# Altium schematic symbol library STM_SCH_LIB.SchLib: 18 symbols
Pins are listed as number, name and electrical type; pins without a type are passive.

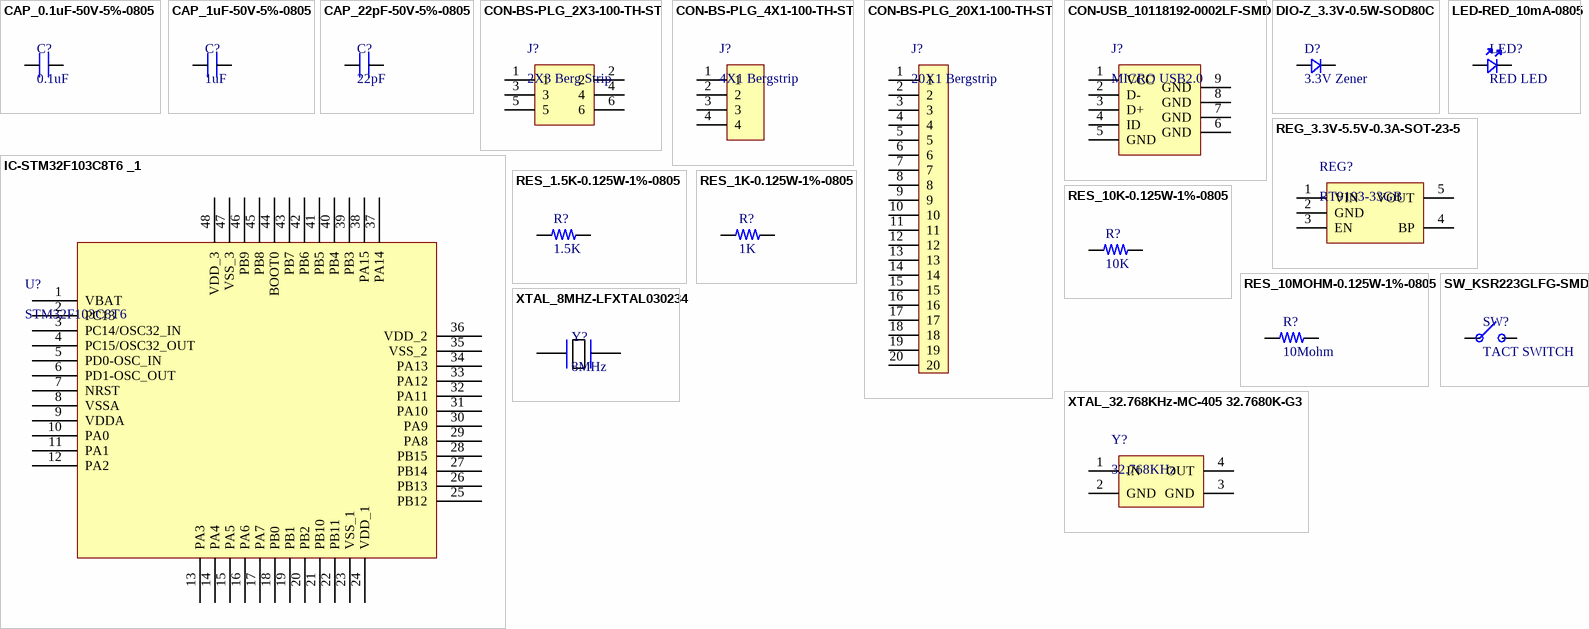
[diagram p0: symbols CAP_0.1uF-50V-5%-0805 to XTAL_32.768KHz-MC-405 32.7680K-G3]

## CAP_0.1uF-50V-5%-0805
designator C?, comment 0.1uF
0.1µF ±5% 50V Ceramic Capacitor X7R 0805 (2012 Metric); Manufacturer: KEMET; Manufacturing Part Number: C0805C104J5RACTU; Case/Package: 0805 (2012 Metric); Supplier-1: Digikey; Supplier Part Number-1: 399-1171-1-ND
footprint CAP_0805 (Ceramic Capacitor)
pins: 1, 2

## CAP_1uF-50V-5%-0805
designator C?, comment 1uF
1µF ±5% 50V Ceramic Capacitor X7R 0805 (2012 Metric); Manufacturer: Yageo; Manufacturing Part Number: CC0805JKX7R9BB105; Case/Package: 0805 (2012 Metric); Supplier-1: Digikey; Supplier Part Number-1: 311-3498-1-ND
footprint CAP_0805 (Ceramic Capacitor)
pins: 1, 2

## CAP_22pF-50V-5%-0805
designator C?, comment 22pF
22pF ±5% 50V Ceramic Capacitor C0G, NP0 0805 (2012 Metric); Manufacturer: KEMET; Manufacturer Part Number: C0805C220J5GACTU; Case/Package: 0805; Supplier-1: Digikey; Supplier Part Number-1: 399-1113-1-ND
footprint CAP_0805 (Ceramic Capacitor)
pins: 1, 2

## CON-BS-PLG_2X3-100-TH-ST
designator J?, comment 2X3 Berg Strip
6 pin, 2 row, 2.54mm pitch bergstrip; Manufacturer: NA; Manufacturer Part Number: NA; Case/Package: TH; Supplier-1: NA; Supplier Part Number-1: NA
footprint CON6_100_59D78_TH_ST_Duplicate (Berg strip)
pins: 1, 2, 3, 4, 5, 6

## CON-BS-PLG_4X1-100-TH-ST
designator J?, comment 4X1 Bergstrip
4 pin, 1 row, 2.54mm pitch bergstrip; Manufacturer: NA; Manufacturing Part Number: NA; Case/Package: TH; Supplier-1: NA; Supplier Part Number-1: NA
footprint CON4_100_40D72_TH_ST_MALE (Berg Strip)
pins: 1, 2, 3, 4

## CON-BS-PLG_20X1-100-TH-ST
designator J?, comment 20X1 Bergstrip
20 pin, 1 row, 2.54mm pitch bergstrip; Manufacturer: NA; Manufacturing Part Number: NA; Case/Package: TH; Supplier-1: NA; Supplier Part Number-1: NA
footprint CON20_100_40D72_TH_ST (Berg strip)
pins: 1, 2, 3, 4, 5, 6, 7, 8, 9, 10, 11, 12, 13, 14, 15, 16, 17, 18, 19, 20

## CON-USB_10118192-0002LF-SMD
designator J?, comment MICRO USB2.0
USB - micro B USB 2.0 Receptacle Connector 5 Position Surface Mount, Right Angle; Manufacturer: Amphenol ICC (FCI); Manufacturing Part Number: 10118192-0002LF; Case/Package: SMD; Supplier-1: Digikey; Supplier Part Number-1: 609-5379-1-ND
footprint CON_10118192-0001LF_SMD (USB2.0 MICRO)
pins: 1 VCC, 2 D-, 3 D+, 4 ID, 5 GND, 6 GND, 7 GND, 8 GND, 9 GND

## DIO-Z_3.3V-0.5W-SOD80C
designator D?, comment 3.3V Zener
Zener Diode 3.3V 500mW ±5% Surface Mount LLDS; MiniMelf; Manufacturer: Nexperia USA Inc.; Manufacturing Part Number: BZV55-C3V3,115; Case/Package: SOD80C; Supplier-1: Digikey; Supplier Part Number-1: 1727-4970-1-ND
footprint DIO_SOD80C (Voltage regulator diodes)
pins: A, K

## IC-STM32F103C8T6 _1
designator U?, comment STM32F103C8T6
ARM® Cortex®-M3 STM32F1 Microcontroller IC 32-Bit 72MHz 64KB (64K x 8) FLASH; Manufacturer: STMicroelectronics; Manufacturer Part Number: STM32F103C8T6; Case/Package: 48-LQFP; Supplier-1: Digikey; Supplier Part Number-1: 497-6063-ND
footprint LQFP-48_19.6_393_58X11_SMD (48LQFP)
pins: 1 VBAT, 2 PC13, 3 PC14/OSC32_IN, 4 PC15/OSC32_OUT, 5 PD0-OSC_IN, 6 PD1-OSC_OUT, 7 NRST, 8 VSSA, 9 VDDA, 10 PA0, 11 PA1, 12 PA2, 13 PA3, 14 PA4, 15 PA5, 16 PA6, 17 PA7, 18 PB0, 19 PB1, 20 PB2, 21 PB10, 22 PB11, 23 VSS_1, 24 VDD_1, 25 PB12, 26 PB13, 27 PB14, 28 PB15, 29 PA8, 30 PA9, 31 PA10, 32 PA11, 33 PA12, 34 PA13, 35 VSS_2, 36 VDD_2, 37 PA14, 38 PA15, 39 PB3, 40 PB4, 41 PB5, 42 PB6, 43 PB7, 44 BOOT0, 45 PB8, 46 PB9, 47 VSS_3, 48 VDD_3

## LED-RED_10mA-0805
designator LED?, comment RED LED
Red 621nm LED Indication - Discrete 2V 0805 (2012 Metric); Manufacturer: Lite-On Inc.; Manufacturer Part Number: LTST-C170EKT; Case/ Package: 0805; Supplier-1: Digikey; Supplier Part Number-1: 160-1178-1-ND
footprint LED_0805 (LED)
pins: A, K

## REG_3.3V-5.5V-0.3A-SOT-23-5
designator REG?, comment RT9193-33GB
Linear Voltage Regulator IC 1 Output 300mA SOT-23-5; Manufacturer: Richtek USA Inc.; Manufacturer Part Number: RT9193-33GB; Case/ Package: SOT-23-5; Supplier-1: Digikey; Supplier Part Number-1: 1028-1014-1-ND
footprint SOT23-5 (CASE: SOT)
pins: 1 VIN, 2 GND, 3 EN, 4 BP, 5 VOUT

## RES_1.5K-0.125W-1%-0805
designator R?, comment 1.5K
1.5 kOhms ±1% 0.125W, 1/8W Chip Resistor 0805 (2012 Metric) Thick Film; Manufacturer: TE Connectivity Passive Product; Manufacturing Part Number: CRG0805F1K5; Case/Package: 0805; Supplier-1: Digikey; Supplier Part Number-1: A106057CT-ND
footprint RES_0805 (Resister)
pins: 1, 2

## RES_1K-0.125W-1%-0805
designator R?, comment 1K
1 kOhms ±1% 0.125W, 1/8W Chip Resistor 0805 (2012 Metric) Moisture Resistant Thick Film; Manufacturer: 垈㎵á; Manufacturer Part Number: RC0805FR-071KL; Case/Package: 0805; Supplier-1: Digikey; Supplier Part Number-1: 311-1.00KCRCT-ND
footprint RES_0805 (Resister)
pins: 1, 2

## RES_10K-0.125W-1%-0805
designator R?, comment 10K
10 kOhms ±1% 0.125W, 1/8W Chip Resistor 0805 (2012 Metric) Moisture Resistant Thick Film; Manufacturer: Yageo; Manufacturing Part Number: RC0805FR-0710KL; Case/Package: 0805; Supplier-1: Digikey; Supplier Part Number-1: 311-10.0KCRCT-ND
footprint RES_0805 (Resister)
pins: 1, 2

## RES_10MOHM-0.125W-1%-0805
designator R?, comment 10Mohm
10 MOhms ±1% 0.125W, 1/8W Chip Resistor 0805 (2012 Metric) Automotive AEC-Q200, High Voltage Thick Film; Manufacturer: Rohm Semiconductor; Manufacturing Part Number: KTR10EZPF1005; Case/Package: 0805 (2012 Metric); Supplier-1: Digikey; Supplier Part Number-1: RHM10.0MAHCT-ND
footprint RES_0805 (Resister)
pins: 1, 2

## SW_KSR223GLFG-SMD
designator SW?, comment TACT SWITCH
Tactile Switch SPST-NO Top Actuated Surface Mount; Manufacturer: C&K; Manufacturing Part Number: KSR223GLFG; Case/Package: SMD; Supplier-1: Digikey; Supplier Part Number-1: 401-1704-1-ND
footprint SW_342_SMD (CASE: SMD)
pins: 1, 2

## XTAL_8MHZ-LFXTAL030234
designator Y?, comment 8MHz
Crystals 8MHz 22pF -20C 70C; Manufacturer: IQD Frequency Products; Manufacturing Part Number: LFXTAL030234Reel; Case/Package: SMD; Supplier-1: Mouser; Supplier Part Number-1: 449-LFXTAL030234REEL
footprint XTAL_314_240X47_SMD (CASE: TH)
pins: 1, 2

## XTAL_32.768KHz-MC-405 32.7680K-G3
designator Y?, comment 32.768KHz
Crystals SMD AT XTL MHZ +/-50PPM 12.5 PF 250 T/R; Manufacturer: Epson; Manufacturing Part Number: MC-405 32.7680K-G3: ROHS; Case/Package: SMD; Supplier-1: Mouser; Supplier Part Number-1: 732-MC405327680KG3RS
footprint XTAL_MC-405 32.7680K-G3 (Crystal)
pins: 1 IN, 2 GND, 3 GND, 4 OUT